# Altium integrated library TI_Logic_Specialty_Logic.IntLib: 2504 symbols (part 70 of 81)
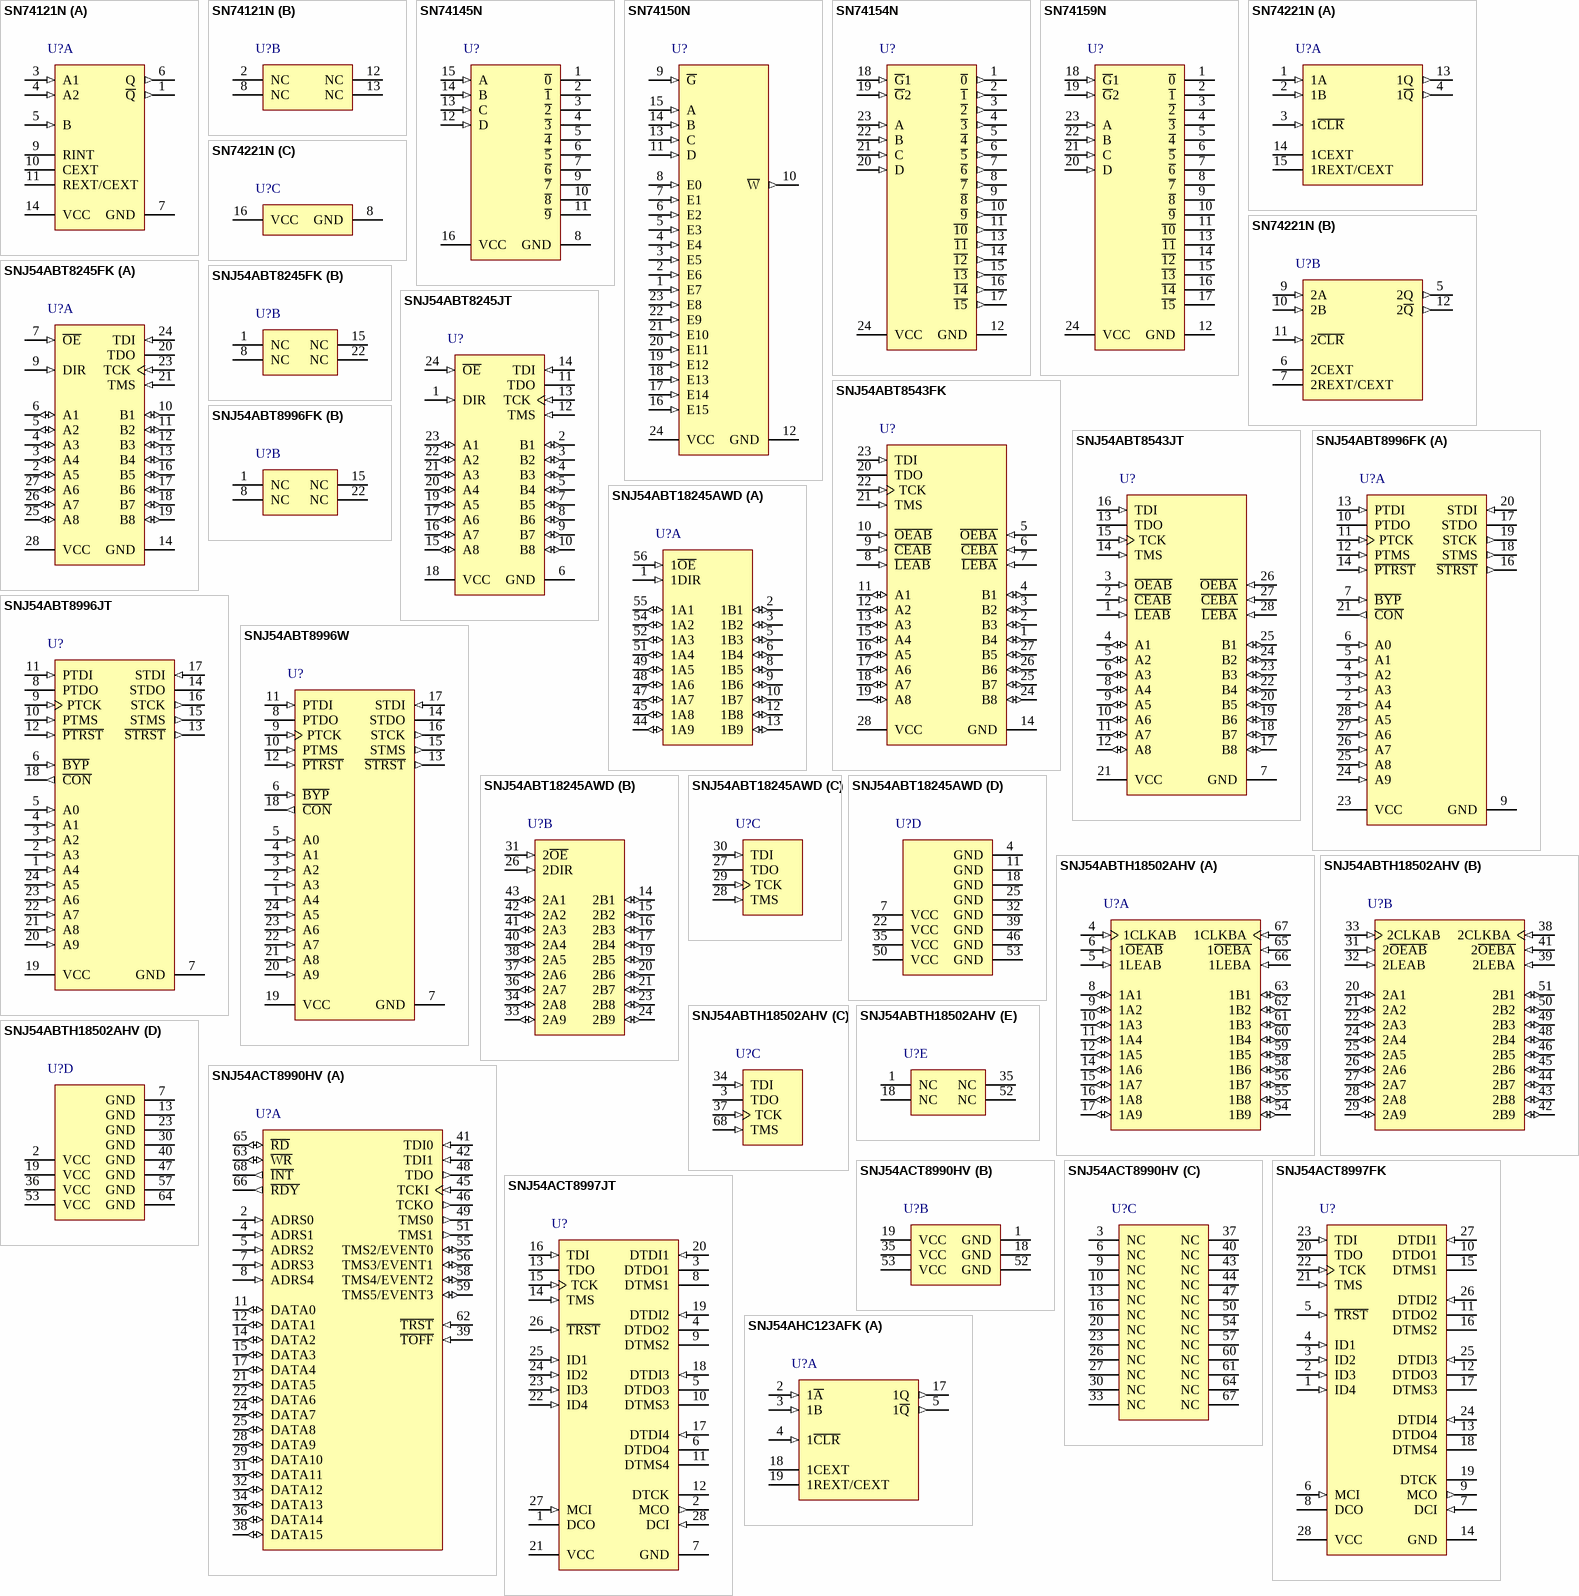
[diagram p173: symbols SN74121N to SNJ54AHC123AFK]

## SNJ54ABT8543FK
designator U?
Scan Test Devices With Octal Registered Bus Tranceivers, FK0028A, TUBE; Generic Part Number: SN54ABT8543; Manufacturer: Texas Instruments; PartNumber: SNJ54ABT8543FK; VCC(Min)(V): 4.5; VCC(Max)(V): 5.5; Output Type: TTL; ICC @ Nom Voltage(Max)(mA): 38; Bits(#): 8; Rating: Military; Technology Family: ABT; Output Drive (IOL/IOH)(Max)(mA): 64/-32; tpd @ Nom Voltage(Max)(ns): 5.8; DatasheetVersion: SCBS120E; PackageReference: FK0028A; Input Type: TTL; Operating Temperature Range(C): -55 to 125; Code_JEDEC: MS-004; ComponentLink1Description: Manufacturer URL; ComponentLink1URL: http://www.ti.com/; ComponentLink2Description: Datasheet; ComponentLink2URL: http://www.ti.com/lit/ds/symlink/sn54abt8543.pdf; ComponentLink3Description: Package Specification; ComponentLink3URL: http://www.ti.com/lit/ml/mlcc006d/mlcc006d.pdf
footprint FD0028A_N (LCC, 28-Leads, Body 11.43x11.43mm, Pitch 1.27mm, IPC Medium Density)
footprint FD0028A_M (LCC, 28-Leads, Body 11.43x11.43mm, Pitch 1.27mm, IPC Low Density)
footprint FD0028A_L (LCC, 28-Leads, Body 11.43x11.43mm, Pitch 1.27mm, IPC High Density)
pins: 1 B4 (io) "Normal-function B-bus I/O ports. See function table for normal-mode logic.", 2 B3 (io) "Normal-function B-bus I/O ports. See function table for normal-mode logic.", 3 B2 (io) "Normal-function B-bus I/O ports. See function table for normal-mode logic.", 4 B1 (io) "Normal-function B-bus I/O ports. See function table for normal-mode logic.", 5 ~{OEBA} (in) "Normal-function output-enable inputs. See function table for normal-mode logic.", 6 ~{CEBA} (in) "Normal-function chip-enable inputs. See function table for normal-mode logic.", 7 ~{LEBA} (in) "Normal-function latch-enable inputs. See function table for normal-mode logic.", 8 ~{LEAB} (in) "Normal-function latch-enable inputs. See function table for normal-mode logic.", 9 ~{CEAB} (in) "Normal-function chip-enable inputs. See function table for normal-mode logic.", 10 ~{OEAB} (in) "Normal-function output-enable inputs. See function table for normal-mode logic.", 11 A1 (io) "Normal-function A-bus I/O ports. See function table for normal-mode logic.", 12 A2 (io) "Normal-function A-bus I/O ports. See function table for normal-mode logic.", 13 A3 (io) "Normal-function A-bus I/O ports. See function table for normal-mode logic.", 14 GND (power) "Ground", 15 A4 (io) "Normal-function A-bus I/O ports. See function table for normal-mode logic.", 16 A5 (io) "Normal-function A-bus I/O ports. See function table for normal-mode logic.", 17 A6 (io) "Normal-function A-bus I/O ports. See function table for normal-mode logic.", 18 A7 (io) "Normal-function A-bus I/O ports. See function table for normal-mode logic.", 19 A8 (io) "Normal-function A-bus I/O ports. See function table for normal-mode logic.", 20 TDO (hiz) "Test data output. One of four terminals required by IEEE Standard 1149.1-1990. TDO is the serial output for shifting data through the instruction register or selected data register.", 21 TMS (in) "Test mode select. One of four terminals required by IEEE Standard 1149.1-1990. TMS directs the device through its TAP controller states. An internal pullup forces TMS to a high level if left unconnected.", 22 TCK (in) "Test clock. One of four terminals required by IEEE Standard 1149.1-1990. Test operations of the device are synchronous to TCK. Data is captured on the rising edge of TCK, and outputs change on the falling edge of TCK.", 23 TDI (in) "Test data input. One of four terminals required by IEEE Standard 1149.1-1990. TDI is the serial input for shifting data through the instruction register or selected data register. An internal pullup forces TDI to a high (See Datasheet)", 24 B8 (io) "Normal-function B-bus I/O ports. See function table for normal-mode logic.", 25 B7 (io) "Normal-function B-bus I/O ports. See function table for normal-mode logic.", 26 B6 (io) "Normal-function B-bus I/O ports. See function table for normal-mode logic.", 27 B5 (io) "Normal-function B-bus I/O ports. See function table for normal-mode logic.", 28 VCC (power) "Supply voltage"

## SNJ54ABT8543JT
designator U?
Scan Test Devices With Octal Registered Bus Tranceivers, JT0028A, TUBE; Generic Part Number: SN54ABT8543; Manufacturer: Texas Instruments; PartNumber: SNJ54ABT8543JT; VCC(Min)(V): 4.5; VCC(Max)(V): 5.5; Output Type: TTL; ICC @ Nom Voltage(Max)(mA): 38; Bits(#): 8; Rating: Military; Technology Family: ABT; Output Drive (IOL/IOH)(Max)(mA): 64/-32; tpd @ Nom Voltage(Max)(ns): 5.8; DatasheetVersion: SCBS120E; PackageReference: JT0028A; Input Type: TTL; Operating Temperature Range(C): -55 to 125; ComponentLink1Description: Manufacturer URL; ComponentLink1URL: http://www.ti.com/; ComponentLink2Description: Datasheet; ComponentLink2URL: http://www.ti.com/lit/ds/symlink/sn54abt8543.pdf
footprint JT0028A (DIP, 28-Leads, Body 37.1x7.2mm, Pitch 2.54mm)
pins: 1 ~{LEAB} (in) "Normal-function latch-enable inputs. See function table for normal-mode logic.", 2 ~{CEAB} (in) "Normal-function chip-enable inputs. See function table for normal-mode logic.", 3 ~{OEAB} (in) "Normal-function output-enable inputs. See function table for normal-mode logic.", 4 A1 (io) "Normal-function A-bus I/O ports. See function table for normal-mode logic.", 5 A2 (io) "Normal-function A-bus I/O ports. See function table for normal-mode logic.", 6 A3 (io) "Normal-function A-bus I/O ports. See function table for normal-mode logic.", 7 GND (power) "Ground", 8 A4 (io) "Normal-function A-bus I/O ports. See function table for normal-mode logic.", 9 A5 (io) "Normal-function A-bus I/O ports. See function table for normal-mode logic.", 10 A6 (io) "Normal-function A-bus I/O ports. See function table for normal-mode logic.", 11 A7 (io) "Normal-function A-bus I/O ports. See function table for normal-mode logic.", 12 A8 (io) "Normal-function A-bus I/O ports. See function table for normal-mode logic.", 13 TDO (hiz) "Test data output. One of four terminals required by IEEE Standard 1149.1-1990. TDO is the serial output for shifting data through the instruction register or selected data register.", 14 TMS (in) "Test mode select. One of four terminals required by IEEE Standard 1149.1-1990. TMS directs the device through its TAP controller states. An internal pullup forces TMS to a high level if left unconnected.", 15 TCK (in) "Test clock. One of four terminals required by IEEE Standard 1149.1-1990. Test operations of the device are synchronous to TCK. Data is captured on the rising edge of TCK, and outputs change on the falling edge of TCK.", 16 TDI (in) "Test data input. One of four terminals required by IEEE Standard 1149.1-1990. TDI is the serial input for shifting data through the instruction register or selected data register. An internal pullup forces TDI to a high (See Datasheet)", 17 B8 (io) "Normal-function B-bus I/O ports. See function table for normal-mode logic.", 18 B7 (io) "Normal-function B-bus I/O ports. See function table for normal-mode logic.", 19 B6 (io) "Normal-function B-bus I/O ports. See function table for normal-mode logic.", 20 B5 (io) "Normal-function B-bus I/O ports. See function table for normal-mode logic.", 21 VCC (power) "Supply voltage", 22 B4 (io) "Normal-function B-bus I/O ports. See function table for normal-mode logic.", 23 B3 (io) "Normal-function B-bus I/O ports. See function table for normal-mode logic.", 24 B2 (io) "Normal-function B-bus I/O ports. See function table for normal-mode logic.", 25 B1 (io) "Normal-function B-bus I/O ports. See function table for normal-mode logic.", 26 ~{OEBA} (in) "Normal-function output-enable inputs. See function table for normal-mode logic.", 27 ~{CEBA} (in) "Normal-function chip-enable inputs. See function table for normal-mode logic.", 28 ~{LEBA} (in) "Normal-function latch-enable inputs. See function table for normal-mode logic."

## SNJ54ABT8996FK
designator U?
10-Bit Addressable Scan Ports Multidrop-Addressable IEEE 1149.1, FK0028A, TUBE; Generic Part Number: SN54ABT8996; Manufacturer: Texas Instruments; PartNumber: SNJ54ABT8996FK; VCC(Min)(V): 4.5; VCC(Max)(V): 5.5; Output Type: TTL; Rating: Military; Technology Family: ABT; DatasheetVersion: SCBS489C; PackageReference: FK0028A; Input Type: TTL; Operating Temperature Range(C): -55 to 125; Code_JEDEC: MS-004; ComponentLink1Description: Manufacturer URL; ComponentLink1URL: http://www.ti.com/; ComponentLink2Description: Datasheet; ComponentLink2URL: http://www.ti.com/lit/ds/symlink/sn54abt8996.pdf; ComponentLink3Description: Package Specification; ComponentLink3URL: http://www.ti.com/lit/ml/mlcc006d/mlcc006d.pdf
footprint FD0028A_N (LCC, 28-Leads, Body 11.43x11.43mm, Pitch 1.27mm, IPC Medium Density)
footprint FD0028A_M (LCC, 28-Leads, Body 11.43x11.43mm, Pitch 1.27mm, IPC Low Density)
footprint FD0028A_L (LCC, 28-Leads, Body 11.43x11.43mm, Pitch 1.27mm, IPC High Density)
part A pins: 2 A4 (in) "Address inputs. The ASP compares addresses received via shadow protocol against the value at A9-A0 to determine address match. The bit order is from most significant to least significant. An internal pullup at each A9-A0 (See Datasheet)", 3 A3 (in) "Address inputs. The ASP compares addresses received via shadow protocol against the value at A9-A0 to determine address match. The bit order is from most significant to least significant. An internal pullup at each A9-A0 (See Datasheet)", 4 A2 (in) "Address inputs. The ASP compares addresses received via shadow protocol against the value at A9-A0 to determine address match. The bit order is from most significant to least significant. An internal pullup at each A9-A0 (See Datasheet)", 5 A1 (in) "Address inputs. The ASP compares addresses received via shadow protocol against the value at A9-A0 to determine address match. The bit order is from most significant to least significant. An internal pullup at each A9-A0 (See Datasheet)", 6 A0 (in) "Address inputs. The ASP compares addresses received via shadow protocol against the value at A9-A0 to determine address match. The bit order is from most significant to least significant. An internal pullup at each A9-A0 (See Datasheet)", 7 ~{BYP} (in) "Bypass input. A low input at B\Y\P\ forces the ASP into BYP or BYP/TRST status, depending on P\T\R\S\T\ being high or low, respectively. While B\Y\P\ is low, shadow protocols are ignored. Otherwise, while B\Y\P\ is high, the (See Datasheet)", 9 GND (power) "Ground", 10 PTDO (hiz) "Primary test data output. PTDO transmits the TDO signal required by IEEE Standard 1149.1-1990. During shadow protocols, the ASP transmits any required acknowledgement via the PTDO. The acknowledgement data output at PTDO (See Datasheet)", 11 PTCK (in) "Primary test clock. PTCK receives the TCK signal required by IEEE Standard 1149.1-1990. The ASP always buffers PTCK to STCK. Shadow protocols are received/acknowledged synchronously to PTCK and connect-status changes invoked (See Datasheet)", 12 PTMS (in) "Primary test mode select. PTMS receives the TMS signal required by IEEE Standard 1149.1-1990. The ASP monitors the PTMS to determine the TAP-controller state. During stable TAP states other than Shift-DR or Shift-IR (i.e.(See Datasheet)", 13 PTDI (in) "Primary test data input. PTDI receives the TDI signal required by IEEE Standard 1149.1-1990. During appropriate TAP states, the ASP monitors PTDI for shadow protocols. During shadow protocols, data at PTDI is captured on the (See Datasheet)", 14 ~{PTRST} (in) "Primary test reset. P\T\R\S\T\ receives the T\R\T\ signal allowed by IEEE Standard 1149.1-1990. The ASP always buffers P\T\R\S\T\ to S\T\R\S\T\. A low input at P\T\R\S\T\ forces the ASP to assume TRST or BYP/TRST status, (See Datasheet)", 16 ~{STRST} (out) "Secondary test reset. S\T\R\S\T\ retransmits the T\R\S\T\ signal allowed by IEEE Standard 1149.1-1990. The ASP always buffers S\T\R\S\T\ from P\T\R\S\T\.", 17 STDO (hiz) "Secondary test data output. STDO transmits the TDO signal required by IEEE Standard 1149.1-1990. Under BYP,BYP/TRST, MULTICAST, or ON status, the ASP buffers STDO from PTDI. Under OFF, RESET, or TRST status, STDO is at high (See Datasheet)", 18 STMS (out) "Secondary test mode select. STMS retransmits the TMS signal required by IEEE Standard 1149.1-1990. Under BYP, MULTICAST, or ON status, the ASP buffers STMS from PTMS. When disconnected (as a result of OFF status), STMS (See Datasheet)", 19 STCK (out) "Secondary test clock. STCK retransmits the TCK signal required by IEEE Standard 1149.1-1990. The ASP always buffers STCK from PTCK.", 20 STDI (in) "Secondary test data input. STDI receives the TDI signal required by IEEE Standard 1149.1-1990. Under BYP,BYP/TRST, or ON status, the ASP buffers STDI to PTDO. An internal pullup forces STDI to a high level if it has no (See Datasheet)", 21 ~{CON} (out) "Connect indicator (output). The ASP indicates secondary-scan-port activity (resulting from BYP, BYP/TRST,MULTICAST, or ON status) by forcing C\O\N\ to be low. Inactivity (resulting from OFF, RESET, or TRST status) is (See Datasheet)", 23 VCC (power) "Supply voltage", 24 A9 (in) "Address inputs. The ASP compares addresses received via shadow protocol against the value at A9-A0 to determine address match. The bit order is from most significant to least significant. An internal pullup at each A9-A0 (See Datasheet)", 25 A8 (in) "Address inputs. The ASP compares addresses received via shadow protocol against the value at A9-A0 to determine address match. The bit order is from most significant to least significant. An internal pullup at each A9-A0 (See Datasheet)", 26 A7 (in) "Address inputs. The ASP compares addresses received via shadow protocol against the value at A9-A0 to determine address match. The bit order is from most significant to least significant. An internal pullup at each A9-A0 (See Datasheet)", 27 A6 (in) "Address inputs. The ASP compares addresses received via shadow protocol against the value at A9-A0 to determine address match. The bit order is from most significant to least significant. An internal pullup at each A9-A0 (See Datasheet)", 28 A5 (in) "Address inputs. The ASP compares addresses received via shadow protocol against the value at A9-A0 to determine address match. The bit order is from most significant to least significant. An internal pullup at each A9-A0 (See Datasheet)"
part B pins: 1 NC, 8 NC, 15 NC, 22 NC

## SNJ54ABT8996JT
designator U?
10-Bit Addressable Scan Ports Multidrop-Addressable IEEE 1149.1, JT0024A, TUBE; Generic Part Number: SN54ABT8996; Manufacturer: Texas Instruments; PartNumber: SNJ54ABT8996JT; VCC(Min)(V): 4.5; VCC(Max)(V): 5.5; Output Type: TTL; Rating: Military; Technology Family: ABT; DatasheetVersion: SCBS489C; PackageReference: JT0024A; Input Type: TTL; Operating Temperature Range(C): -55 to 125; ComponentLink1Description: Manufacturer URL; ComponentLink1URL: http://www.ti.com/; ComponentLink2Description: Datasheet; ComponentLink2URL: http://www.ti.com/lit/ds/symlink/sn54abt8996.pdf
footprint JT0024A (DIP, 24-Leads, Body 7.2x32.5mm, Pitch 2.54mm)
pins: 1 A4 (in) "Address inputs. The ASP compares addresses received via shadow protocol against the value at A9-A0 to determine address match. The bit order is from most significant to least significant. An internal pullup at each A9-A0 (See Datasheet)", 2 A3 (in) "Address inputs. The ASP compares addresses received via shadow protocol against the value at A9-A0 to determine address match. The bit order is from most significant to least significant. An internal pullup at each A9-A0 (See Datasheet)", 3 A2 (in) "Address inputs. The ASP compares addresses received via shadow protocol against the value at A9-A0 to determine address match. The bit order is from most significant to least significant. An internal pullup at each A9-A0 (See Datasheet)", 4 A1 (in) "Address inputs. The ASP compares addresses received via shadow protocol against the value at A9-A0 to determine address match. The bit order is from most significant to least significant. An internal pullup at each A9-A0 (See Datasheet)", 5 A0 (in) "Address inputs. The ASP compares addresses received via shadow protocol against the value at A9-A0 to determine address match. The bit order is from most significant to least significant. An internal pullup at each A9-A0 (See Datasheet)", 6 ~{BYP} (in) "Bypass input. A low input at B\Y\P\ forces the ASP into BYP or BYP/TRST status, depending on P\T\R\S\T\ being high or low, respectively. While B\Y\P\ is low, shadow protocols are ignored. Otherwise, while B\Y\P\ is high, the (See Datasheet)", 7 GND (power) "Ground", 8 PTDO (hiz) "Primary test data output. PTDO transmits the TDO signal required by IEEE Standard 1149.1-1990. During shadow protocols, the ASP transmits any required acknowledgement via the PTDO. The acknowledgement data output at PTDO (See Datasheet)", 9 PTCK (in) "Primary test clock. PTCK receives the TCK signal required by IEEE Standard 1149.1-1990. The ASP always buffers PTCK to STCK. Shadow protocols are received/acknowledged synchronously to PTCK and connect-status changes invoked (See Datasheet)", 10 PTMS (in) "Primary test mode select. PTMS receives the TMS signal required by IEEE Standard 1149.1-1990. The ASP monitors the PTMS to determine the TAP-controller state. During stable TAP states other than Shift-DR or Shift-IR (i.e.(See Datasheet)", 11 PTDI (in) "Primary test data input. PTDI receives the TDI signal required by IEEE Standard 1149.1-1990. During appropriate TAP states, the ASP monitors PTDI for shadow protocols. During shadow protocols, data at PTDI is captured on the (See Datasheet)", 12 ~{PTRST} (in) "Primary test reset. P\T\R\S\T\ receives the T\R\S\T\ signal allowed by IEEE Standard 1149.1-1990. The ASP always buffers P\T\R\S\T\ to S\T\R\S\T\. A low input at PTRST forces the ASP to assume TRST or BYP/TRST status, (See Datasheet)", 13 ~{STRST} (out) "Secondary test reset. S\T\R\S\T\ retransmits the T\R\S\T\ signal allowed by IEEE Standard 1149.1-1990. The ASP always buffers S\T\R\S\T\ from P\T\R\S\T\.", 14 STDO (hiz) "Secondary test data output. STDO transmits the TDO signal required by IEEE Standard 1149.1-1990. Under BYP,BYP/TRST, MULTICAST, or ON status, the ASP buffers STDO from PTDI. Under OFF, RESET, or TRST status, STDO is at high (See Datasheet)", 15 STMS (out) "Secondary test mode select. STMS retransmits the TMS signal required by IEEE Standard 1149.1-1990. Under BYP,MULTICAST, or ON status, the ASP buffers STMS from PTMS. When disconnected (as a result of OFF status), STMS (See Datasheet)", 16 STCK (out) "Secondary test clock. STCK retransmits the TCK signal required by IEEE Standard 1149.1-1990. The ASP always buffers STCK from PTCK.", 17 STDI (in) "Secondary test data input. STDI receives the TDI signal required by IEEE Standard 1149.1-1990. Under BYP,BYP/TRST, or ON status, the ASP buffers STDI to PTDO. An internal pullup forces STDI to a high level if it has no (See Datasheet)", 18 ~{CON} (out) "Connect indicator (output). The ASP indicates secondary-scan-port activity (resulting from BYP, BYP/TRST,MULTICAST, or ON status) by forcing CON to be low. Inactivity (resulting from OFF, RESET, or TRST status) is indicated (See Datasheet)", 19 VCC (power) "Supply voltage", 20 A9 (in) "Address inputs. The ASP compares addresses received via shadow protocol against the value at A9-A0 to determine address match. The bit order is from most significant to least significant. An internal pullup at each A9-A0 (See Datasheet)", 21 A8 (in) "Address inputs. The ASP compares addresses received via shadow protocol against the value at A9-A0 to determine address match. The bit order is from most significant to least significant. An internal pullup at each A9-A0 (See Datasheet)", 22 A7 (in) "Address inputs. The ASP compares addresses received via shadow protocol against the value at A9-A0 to determine address match. The bit order is from most significant to least significant. An internal pullup at each A9-A0 (See Datasheet)", 23 A6 (in) "Address inputs. The ASP compares addresses received via shadow protocol against the value at A9-A0 to determine address match. The bit order is from most significant to least significant. An internal pullup at each A9-A0 (See Datasheet)", 24 A5 (in) "Address inputs. The ASP compares addresses received via shadow protocol against the value at A9-A0 to determine address match. The bit order is from most significant to least significant. An internal pullup at each A9-A0 (See Datasheet)"

## SNJ54ABT8996W
designator U?
10-Bit Addressable Scan Ports Multidrop-Addressable IEEE 1149.1, W0024A, TUBE; Generic Part Number: SN54ABT8996; Manufacturer: Texas Instruments; PartNumber: SNJ54ABT8996W; VCC(Min)(V): 4.5; VCC(Max)(V): 5.5; Output Type: TTL; Rating: Military; Technology Family: ABT; DatasheetVersion: SCBS489C; PackageReference: W0024A; Input Type: TTL; Operating Temperature Range(C): -55 to 125; ComponentLink1Description: Manufacturer URL; ComponentLink1URL: http://www.ti.com/; ComponentLink2Description: Datasheet; ComponentLink2URL: http://www.ti.com/lit/ds/symlink/sn54abt8996.pdf
footprint W0024A_N (CFP, 24-Leads, Body 16.26x9.53mm, Pitch 1.27mm, IPC Medium Density)
footprint W0024A_M (CFP, 24-Leads, Body 16.26x9.53mm, Pitch 1.27mm, IPC Low Density)
footprint W0024A_L (CFP, 24-Leads, Body 16.26x9.53mm, Pitch 1.27mm, IPC High Density)
pins: 1 A4 (in) "Address inputs. The ASP compares addresses received via shadow protocol against the value at A9-A0 to determine address match. The bit order is from most significant to least significant. An internal pullup at each A9-A0 (See Datasheet)", 2 A3 (in) "Address inputs. The ASP compares addresses received via shadow protocol against the value at A9-A0 to determine address match. The bit order is from most significant to least significant. An internal pullup at each A9-A0 (See Datasheet)", 3 A2 (in) "Address inputs. The ASP compares addresses received via shadow protocol against the value at A9-A0 to determine address match. The bit order is from most significant to least significant. An internal pullup at each A9-A0 (See Datasheet)", 4 A1 (in) "Address inputs. The ASP compares addresses received via shadow protocol against the value at A9-A0 to determine address match. The bit order is from most significant to least significant. An internal pullup at each A9-A0 (See Datasheet)", 5 A0 (in) "Address inputs. The ASP compares addresses received via shadow protocol against the value at A9-A0 to determine address match. The bit order is from most significant to least significant. An internal pullup at each A9-A0 (See Datasheet)", 6 ~{BYP} (in) "Bypass input. A low input at B\Y\P\ forces the ASP into BYP or BYP/TRST status, depending on P\T\R\S\T\ being high or low, respectively. While B\Y\P\ is low, shadow protocols are ignored. Otherwise, while B\Y\P\ is high, the (See Datasheet)", 7 GND (power) "Ground", 8 PTDO (hiz) "Primary test data output. PTDO transmits the TDO signal required by IEEE Standard 1149.1-1990. During shadow protocols, the ASP transmits any required acknowledgement via the PTDO. The acknowledgement data output at PTDO (See Datasheet)", 9 PTCK (in) "Primary test clock. PTCK receives the TCK signal required by IEEE Standard 1149.1-1990. The ASP always buffers PTCK to STCK. Shadow protocols are received/acknowledged synchronously to PTCK and connect-status changes invoked (See Datasheet)", 10 PTMS (in) "Primary test mode select. PTMS receives the TMS signal required by IEEE Standard 1149.1-1990. The ASP monitors the PTMS to determine the TAP-controller state. During stable TAP states other than Shift-DR or Shift-IR (i.e.(See Datasheet)", 11 PTDI (in) "Primary test data input. PTDI receives the TDI signal required by IEEE Standard 1149.1-1990. During appropriate TAP states, the ASP monitors PTDI for shadow protocols. During shadow protocols, data at PTDI is captured on the (See Datasheet)", 12 ~{PTRST} (in) "Primary test reset. P\T\R\S\T\ receives the T\R\S\T\ signal allowed by IEEE Standard 1149.1-1990. The ASP always buffers P\T\R\S\T\ to S\T\R\S\T\. A low input at PTRST forces the ASP to assume TRST or BYP/TRST status, (See Datasheet)", 13 ~{STRST} (out) "Secondary test reset. S\T\R\S\T\ retransmits the T\R\S\T\ signal allowed by IEEE Standard 1149.1-1990. The ASP always buffers S\T\R\S\T\ from P\T\R\S\T\.", 14 STDO (hiz) "Secondary test data output. STDO transmits the TDO signal required by IEEE Standard 1149.1-1990. Under BYP,BYP/TRST, MULTICAST, or ON status, the ASP buffers STDO from PTDI. Under OFF, RESET, or TRST status, STDO is at high (See Datasheet)", 15 STMS (out) "Secondary test mode select. STMS retransmits the TMS signal required by IEEE Standard 1149.1-1990. Under BYP,MULTICAST, or ON status, the ASP buffers STMS from PTMS. When disconnected (as a result of OFF status), STMS (See Datasheet)", 16 STCK (out) "Secondary test clock. STCK retransmits the TCK signal required by IEEE Standard 1149.1-1990. The ASP always buffers STCK from PTCK.", 17 STDI (in) "Secondary test data input. STDI receives the TDI signal required by IEEE Standard 1149.1-1990. Under BYP,BYP/TRST, or ON status, the ASP buffers STDI to PTDO. An internal pullup forces STDI to a high level if it has no (See Datasheet)", 18 ~{CON} (out) "Connect indicator (output). The ASP indicates secondary-scan-port activity (resulting from BYP, BYP/TRST,MULTICAST, or ON status) by forcing CON to be low. Inactivity (resulting from OFF, RESET, or TRST status) is indicated (See Datasheet)", 19 VCC (power) "Supply voltage", 20 A9 (in) "Address inputs. The ASP compares addresses received via shadow protocol against the value at A9-A0 to determine address match. The bit order is from most significant to least significant. An internal pullup at each A9-A0 (See Datasheet)", 21 A8 (in) "Address inputs. The ASP compares addresses received via shadow protocol against the value at A9-A0 to determine address match. The bit order is from most significant to least significant. An internal pullup at each A9-A0 (See Datasheet)", 22 A7 (in) "Address inputs. The ASP compares addresses received via shadow protocol against the value at A9-A0 to determine address match. The bit order is from most significant to least significant. An internal pullup at each A9-A0 (See Datasheet)", 23 A6 (in) "Address inputs. The ASP compares addresses received via shadow protocol against the value at A9-A0 to determine address match. The bit order is from most significant to least significant. An internal pullup at each A9-A0 (See Datasheet)", 24 A5 (in) "Address inputs. The ASP compares addresses received via shadow protocol against the value at A9-A0 to determine address match. The bit order is from most significant to least significant. An internal pullup at each A9-A0 (See Datasheet)"

## SNJ54ABT18245AWD
designator U?
Scan Test Devices With 18-Bit Bus Transceivers, WD0056A, TUBE; Generic Part Number: SN54ABT18245A; Manufacturer: Texas Instruments; PartNumber: SNJ54ABT18245AWD; VCC(Min)(V): 4.5; VCC(Max)(V): 5.5; Output Type: TTL; ICC @ Nom Voltage(Max)(mA): 38; Bits(#): 18; Rating: Military; Technology Family: ABT; Output Drive (IOL/IOH)(Max)(mA): 64/-32; Output Logic: True; tpd @ Nom Voltage(Max)(ns): 5.4; DatasheetVersion: SCBS110H; PackageReference: WD0056A; Input Type: TTL; Operating Temperature Range(C): -55 to 125; ComponentLink1Description: Manufacturer URL; ComponentLink1URL: http://www.ti.com/; ComponentLink2Description: Datasheet; ComponentLink2URL: http://www.ti.com/lit/ds/symlink/sn54abt18245a.pdf
footprint WD0056A_N (CFP, 56-Leads, Body 18.03x9.91mm, Pitch 0.635mm, IPC Medium Density)
footprint WD0056A_M (CFP, 56-Leads, Body 18.03x9.91mm, Pitch 0.635mm, IPC Low Density)
footprint WD0056A_L (CFP, 56-Leads, Body 18.03x9.91mm, Pitch 0.635mm, IPC High Density)
part A pins: 1 1DIR (in) "Normal-function direction controls. See function table for normal-mode logic.", 2 1B1 (io) "Normal-function B-bus I/O ports. See function table for normal-mode logic.", 3 1B2 (io) "Normal-function B-bus I/O ports. See function table for normal-mode logic.", 5 1B3 (io) "Normal-function B-bus I/O ports. See function table for normal-mode logic.", 6 1B4 (io) "Normal-function B-bus I/O ports. See function table for normal-mode logic.", 8 1B5 (io) "Normal-function B-bus I/O ports. See function table for normal-mode logic.", 9 1B6 (io) "Normal-function B-bus I/O ports. See function table for normal-mode logic.", 10 1B7 (io) "Normal-function B-bus I/O ports. See function table for normal-mode logic.", 12 1B8 (io) "Normal-function B-bus I/O ports. See function table for normal-mode logic.", 13 1B9 (io) "Normal-function B-bus I/O ports. See function table for normal-mode logic.", 44 1A9 (io) "Normal-function A-bus I/O ports. See function table for normal-mode logic.", 45 1A8 (io) "Normal-function A-bus I/O ports. See function table for normal-mode logic.", 47 1A7 (io) "Normal-function A-bus I/O ports. See function table for normal-mode logic.", 48 1A6 (io) "Normal-function A-bus I/O ports. See function table for normal-mode logic.", 49 1A5 (io) "Normal-function A-bus I/O ports. See function table for normal-mode logic.", 51 1A4 (io) "Normal-function A-bus I/O ports. See function table for normal-mode logic.", 52 1A3 (io) "Normal-function A-bus I/O ports. See function table for normal-mode logic.", 54 1A2 (io) "Normal-function A-bus I/O ports. See function table for normal-mode logic.", 55 1A1 (io) "Normal-function A-bus I/O ports. See function table for normal-mode logic.", 56 1~{OE} (in) "Normal-function output enables. See function table for normal-mode logic."
part B pins: 14 2B1 (io) "Normal-function B-bus I/O ports. See function table for normal-mode logic.", 15 2B2 (io) "Normal-function B-bus I/O ports. See function table for normal-mode logic.", 16 2B3 (io) "Normal-function B-bus I/O ports. See function table for normal-mode logic.", 17 2B4 (io) "Normal-function B-bus I/O ports. See function table for normal-mode logic.", 19 2B5 (io) "Normal-function B-bus I/O ports. See function table for normal-mode logic.", 20 2B6 (io) "Normal-function B-bus I/O ports. See function table for normal-mode logic.", 21 2B7 (io) "Normal-function B-bus I/O ports. See function table for normal-mode logic.", 23 2B8 (io) "Normal-function B-bus I/O ports. See function table for normal-mode logic.", 24 2B9 (io) "Normal-function B-bus I/O ports. See function table for normal-mode logic.", 26 2DIR (in) "Normal-function direction controls. See function table for normal-mode logic.", 31 2~{OE} (in) "Normal-function output enables. See function table for normal-mode logic.", 33 2A9 (io) "Normal-function A-bus I/O ports. See function table for normal-mode logic.", 34 2A8 (io) "Normal-function A-bus I/O ports. See function table for normal-mode logic.", 36 2A7 (io) "Normal-function A-bus I/O ports. See function table for normal-mode logic.", 37 2A6 (io) "Normal-function A-bus I/O ports. See function table for normal-mode logic.", 38 2A5 (io) "Normal-function A-bus I/O ports. See function table for normal-mode logic.", 40 2A4 (io) "Normal-function A-bus I/O ports. See function table for normal-mode logic.", 41 2A3 (io) "Normal-function A-bus I/O ports. See function table for normal-mode logic.", 42 2A2 (io) "Normal-function A-bus I/O ports. See function table for normal-mode logic.", 43 2A1 (io) "Normal-function A-bus I/O ports. See function table for normal-mode logic."
part C pins: 27 TDO (hiz) "Test data output. One of four terminals required by IEEE Standard 1149.1-1990. TDO is the serial output for shifting data through the instruction register or selected data register.", 28 TMS (in) "Test mode select. One of four terminals required by IEEE Standard 1149.1-1990. TMS directs the device through its TAP controller states. An internal pullup forces TMS to a high level if left unconnected.", 29 TCK (in) "Test clock. One of four terminals required by IEEE Standard 1149.1-1990. Test operations of the device are synchronous to TCK. Data is captured on the rising edge of TCK and outputs change on the falling edge of TCK.", 30 TDI (in) "Test data input. One of four terminals required by IEEE Standard 1149.1-1990. TDI is the serial input for shifting data through the instruction register or selected data register. An internal pullup forces TDI to a high (See Datasheet)"
part D pins: 4 GND (power) "Ground", 7 VCC (power) "Supply voltage", 11 GND (power) "Ground", 18 GND (power) "Ground", 22 VCC (power) "Supply voltage", 25 GND (power) "Ground", 32 GND (power) "Ground", 35 VCC (power) "Supply voltage", 39 GND (power) "Ground", 46 GND (power) "Ground", 50 VCC (power) "Supply voltage", 53 GND (power) "Ground"

## SNJ54ABTH18502AHV
designator U?
Scan Test Devices With 18-Bit Universal Bus Transceivers, HV0068A, TUBE; Generic Part Number: SN54ABTH18502A; Manufacturer: Texas Instruments; PartNumber: SNJ54ABTH18502AHV; VCC(Min)(V): 4.5; VCC(Max)(V): 5.5; Output Type: TTL; ICC @ Nom Voltage(Max)(mA): 27; Bits(#): 18; Rating: Military; Technology Family: ABT; Output Drive (IOL/IOH)(Max)(mA): 64/-32; Output Logic: True; tpd @ Nom Voltage(Max)(ns): 6.2; DatasheetVersion: SCBS164E; PackageReference: HV0068A; Input Type: TTL; Operating Temperature Range(C): -55 to 125; ComponentLink1Description: Manufacturer URL; ComponentLink1URL: http://www.ti.com/; ComponentLink2Description: Datasheet; ComponentLink2URL: http://www.ti.com/lit/ds/symlink/sn54abth18502a.pdf
footprint HV0068A_N (CQFP, 68-Leads, Body 17.46x17.46mm, Pitch 0.64mm, IPC Medium Density)
footprint HV0068A_M (CQFP, 68-Leads, Body 17.46x17.46mm, Pitch 0.64mm, IPC Low Density)
footprint HV0068A_L (CQFP, 68-Leads, Body 17.46x17.46mm, Pitch 0.64mm, IPC High Density)
part A pins: 4 1CLKAB (in) "Normal-function clock inputs. See function table for normal-mode logic.", 5 1LEAB (in) "Normal-function latch enables. See function table for normal-mode logic.", 6 1~{OEAB} (in) "Normal-function output enables. See function table for normal-mode logic. An internal pullup at each terminal forces the terminal to a high level if left unconnected.", 8 1A1 (io) "Normal-function A-bus I/O ports. See function table for normal-mode logic.", 9 1A2 (io) "Normal-function A-bus I/O ports. See function table for normal-mode logic.", 10 1A3 (io) "Normal-function A-bus I/O ports. See function table for normal-mode logic.", 11 1A4 (io) "Normal-function A-bus I/O ports. See function table for normal-mode logic.", 12 1A5 (io) "Normal-function A-bus I/O ports. See function table for normal-mode logic.", 14 1A6 (io) "Normal-function A-bus I/O ports. See function table for normal-mode logic.", 15 1A7 (io) "Normal-function A-bus I/O ports. See function table for normal-mode logic.", 16 1A8 (io) "Normal-function A-bus I/O ports. See function table for normal-mode logic.", 17 1A9 (io) "Normal-function A-bus I/O ports. See function table for normal-mode logic.", 54 1B9 (io) "Normal-function B-bus I/O ports. See function table for normal-mode logic.", 55 1B8 (io) "Normal-function B-bus I/O ports. See function table for normal-mode logic.", 56 1B7 (io) "Normal-function B-bus I/O ports. See function table for normal-mode logic.", 58 1B6 (io) "Normal-function B-bus I/O ports. See function table for normal-mode logic.", 59 1B5 (io) "Normal-function B-bus I/O ports. See function table for normal-mode logic.", 60 1B4 (io) "Normal-function B-bus I/O ports. See function table for normal-mode logic.", 61 1B3 (io) "Normal-function B-bus I/O ports. See function table for normal-mode logic.", 62 1B2 (io) "Normal-function B-bus I/O ports. See function table for normal-mode logic.", 63 1B1 (io) "Normal-function B-bus I/O ports. See function table for normal-mode logic.", 65 1~{OEBA} (in) "Normal-function output enables. See function table for normal-mode logic. An internal pullup at each terminal forces the terminal to a high level if left unconnected.", 66 1LEBA (in) "Normal-function latch enables. See function table for normal-mode logic.", 67 1CLKBA (in) "Normal-function clock inputs. See function table for normal-mode logic."
part B pins: 20 2A1 (io) "Normal-function A-bus I/O ports. See function table for normal-mode logic.", 21 2A2 (io) "Normal-function A-bus I/O ports. See function table for normal-mode logic.", 22 2A3 (io) "Normal-function A-bus I/O ports. See function table for normal-mode logic.", 24 2A4 (io) "Normal-function A-bus I/O ports. See function table for normal-mode logic.", 25 2A5 (io) "Normal-function A-bus I/O ports. See function table for normal-mode logic.", 26 2A6 (io) "Normal-function A-bus I/O ports. See function table for normal-mode logic.", 27 2A7 (io) "Normal-function A-bus I/O ports. See function table for normal-mode logic.", 28 2A8 (io) "Normal-function A-bus I/O ports. See function table for normal-mode logic.", 29 2A9 (io) "Normal-function A-bus I/O ports. See function table for normal-mode logic.", 31 2~{OEAB} (in) "Normal-function output enables. See function table for normal-mode logic. An internal pullup at each terminal forces the terminal to a high level if left unconnected.", 32 2LEAB (in) "Normal-function latch enables. See function table for normal-mode logic.", 33 2CLKAB (in) "Normal-function clock inputs. See function table for normal-mode logic.", 38 2CLKBA (in) "Normal-function clock inputs. See function table for normal-mode logic.", 39 2LEBA (in) "Normal-function latch enables. See function table for normal-mode logic.", 41 2~{OEBA} (in) "Normal-function output enables. See function table for normal-mode logic. An internal pullup at each terminal forces the terminal to a high level if left unconnected.", 42 2B9 (io) "Normal-function B-bus I/O ports. See function table for normal-mode logic.", 43 2B8 (io) "Normal-function B-bus I/O ports. See function table for normal-mode logic.", 44 2B7 (io) "Normal-function B-bus I/O ports. See function table for normal-mode logic.", 45 2B6 (io) "Normal-function B-bus I/O ports. See function table for normal-mode logic.", 46 2B5 (io) "Normal-function B-bus I/O ports. See function table for normal-mode logic.", 48 2B4 (io) "Normal-function B-bus I/O ports. See function table for normal-mode logic.", 49 2B3 (io) "Normal-function B-bus I/O ports. See function table for normal-mode logic.", 50 2B2 (io) "Normal-function B-bus I/O ports. See function table for normal-mode logic.", 51 2B1 (io) "Normal-function B-bus I/O ports. See function table for normal-mode logic."
part C pins: 3 TDO (hiz) "Test data output. One of four terminals required by IEEE Standard 1149.1-1990. TDO is the serial output for shifting data through the instruction register or selected data register", 34 TDI (in) "Test data input. One of four terminals required by IEEE Standard 1149.1-1990. TDI is the serial input for shifting data through the instruction register or selected data register. An internal pullup forces TDI to a high (See Datasheet)", 37 TCK (in) "Test clock. One of four terminals required by IEEE Standard 1149.1-1990. Test operations of the device are synchronous to TCK. Data is captured on the rising edge of TCK and outputs change on the falling edge of TCK.", 68 TMS (in) "Test mode select. One of four terminals required by IEEE Standard 1149.1-1990. TMS directs the device through its TAP controller states. An internal pullup forces TMS to a high level if left unconnected."
part D pins: 2 VCC (power) "Supply voltage", 7 GND (power) "Ground", 13 GND (power) "Ground", 19 VCC (power) "Supply voltage", 23 GND (power) "Ground", 30 GND (power) "Ground", 36 VCC (power) "Supply voltage", 40 GND (power) "Ground", 47 GND (power) "Ground", 53 VCC (power) "Supply voltage", 57 GND (power) "Ground", 64 GND (power) "Ground"
part E pins: 1 NC "No internal connection", 18 NC "Ground", 35 NC "No internal connection", 52 NC "No internal connection"

## SNJ54ACT8990HV
designator U?
Test Bus Controllers, HV0068A, TUBE; Generic Part Number: SN54ACT8990; Manufacturer: Texas Instruments; PartNumber: SNJ54ACT8990HV; VCC(Min)(V): 4.5; VCC(Max)(V): 5.5; Output Type: CMOS; Input Type: TTL; Rating: Military; Technology Family: ACT; DatasheetVersion: SCAS190E; PackageReference: HV0068A; Operating Temperature Range(C): -55 to 125; ComponentLink1Description: Manufacturer URL; ComponentLink1URL: http://www.ti.com/; ComponentLink2Description: Datasheet; ComponentLink2URL: http://www.ti.com/lit/ds/symlink/sn54act8990.pdf
footprint HV0068A_N (CQFP, 68-Leads, Body 17.46x17.46mm, Pitch 0.64mm, IPC Medium Density)
footprint HV0068A_M (CQFP, 68-Leads, Body 17.46x17.46mm, Pitch 0.64mm, IPC Low Density)
footprint HV0068A_L (CQFP, 68-Leads, Body 17.46x17.46mm, Pitch 0.64mm, IPC High Density)
part A pins: 2 ADRS0 (in) "Address inputs. ADRS4- ADRS0 form the 5-bit address bus that interfaces the TBC to its host. These inputs specify the TBC register to be read from or written to.", 4 ADRS1 (in) "Address inputs. ADRS4- ADRS0 form the 5-bit address bus that interfaces the TBC to its host. These inputs specify the TBC register to be read from or written to.", 5 ADRS2 (in) "Address inputs. ADRS4- ADRS0 form the 5-bit address bus that interfaces the TBC to its host. These inputs specify the TBC register to be read from or written to.", 7 ADRS3 (in) "Address inputs. ADRS4- ADRS0 form the 5-bit address bus that interfaces the TBC to its host. These inputs specify the TBC register to be read from or written to.", 8 ADRS4 (in) "Address inputs. ADRS4- ADRS0 form the 5-bit address bus that interfaces the TBC to its host. These inputs specify the TBC register to be read from or written to.", 11 DATA0 (io) "Data inputs and outputs. DATA15-DATA0 form the 16-bit bidirectional data bus that interfaces the TBC to its host. Data is read from or written to the TBC register using this data bus.", 12 DATA1 (io) "Data inputs and outputs. DATA15-DATA0 form the 16-bit bidirectional data bus that interfaces the TBC to its host. Data is read from or written to the TBC register using this data bus.", 14 DATA2 (io) "Data inputs and outputs. DATA15-DATA0 form the 16-bit bidirectional data bus that interfaces the TBC to its host. Data is read from or written to the TBC register using this data bus.", 15 DATA3 (io) "Data inputs and outputs. DATA15-DATA0 form the 16-bit bidirectional data bus that interfaces the TBC to its host. Data is read from or written to the TBC register using this data bus.", 17 DATA4 (io) "Data inputs and outputs. DATA15-DATA0 form the 16-bit bidirectional data bus that interfaces the TBC to its host. Data is read from or written to the TBC register using this data bus.", 21 DATA5 (io) "Data inputs and outputs. DATA15-DATA0 form the 16-bit bidirectional data bus that interfaces the TBC to its host. Data is read from or written to the TBC register using this data bus.", 22 DATA6 (io) "Data inputs and outputs. DATA15-DATA0 form the 16-bit bidirectional data bus that interfaces the TBC to its host. Data is read from or written to the TBC register using this data bus.", 24 DATA7 (io) "Data inputs and outputs. DATA15-DATA0 form the 16-bit bidirectional data bus that interfaces the TBC to its host. Data is read from or written to the TBC register using this data bus.", 25 DATA8 (io) "Data inputs and outputs. DATA15-DATA0 form the 16-bit bidirectional data bus that interfaces the TBC to its host. Data is read from or written to the TBC register using this data bus.", 28 DATA9 (io) "Data inputs and outputs. DATA15-DATA0 form the 16-bit bidirectional data bus that interfaces the TBC to its host. Data is read from or written to the TBC register using this data bus.", 29 DATA10 (io) "Data inputs and outputs. DATA15-DATA0 form the 16-bit bidirectional data bus that interfaces the TBC to its host. Data is read from or written to the TBC register using this data bus.", 31 DATA11 (io) "Data inputs and outputs. DATA15-DATA0 form the 16-bit bidirectional data bus that interfaces the TBC to its host. Data is read from or written to the TBC register using this data bus.", 32 DATA12 (io) "Data inputs and outputs. DATA15-DATA0 form the 16-bit bidirectional data bus that interfaces the TBC to its host. Data is read from or written to the TBC register using this data bus.", 34 DATA13 (io) "Data inputs and outputs. DATA15-DATA0 form the 16-bit bidirectional data bus that interfaces the TBC to its host. Data is read from or written to the TBC register using this data bus.", 36 DATA14 (io) "Data inputs and outputs. DATA15-DATA0 form the 16-bit bidirectional data bus that interfaces the TBC to its host. Data is read from or written to the TBC register using this data bus.", 38 DATA15 (io) "Data inputs and outputs. DATA15-DATA0 form the 16-bit bidirectional data bus that interfaces the TBC to its host. Data is read from or written to the TBC register using this data bus.", 39 ~{TOFF} (in) "Test-off input. T\O\F\F\ is the active low output disable for all outputs and I/Os of the target interface (TCKO, TDO, TMS, TMS/EVENT).", 41 TDI0 (in) "Test data inputs. The TDI1-TDI0 serial inputs are used for shifting test data from the target(s). The TDI inputs can be directly connected to the TDO pin(s) of the target(s).", 42 TDI1 (in) "Test data inputs. The TDI1-TDI0 serial inputs are used for shifting test data from the target(s). The TDI inputs can be directly connected to the TDO pin(s) of the target(s).", 45 TCKI (in) "Test clock input. TCKI is the clock input for the TBC. Most operations of the TBC are synchronous to TCKI. When enabled, all target interface outputs change on the falling edge of TCKI. Sampling of target interface inputs (See Datasheet)", 46 TCKO (out) "Test clock output. TCKO distributes TCK to the target(s). The TCKO is configured to be disabled, constant zero, constant one, or to follow TCKI. When TCKO follows TCKI, it is delayed to match the delay of generating the TDO (See Datasheet)", 48 TDO (out) "Test data output. TDO is used for shifting test data into the target(s). TDO can be directly connected to the TDI terminal(s) of the target(s).", 49 TMS0 (out) "Test mode select outputs. These parallel outputs transmit TMS signals to the target(s), which direct them through their TAP controller states. TMS1-TMS0 can be directly connected to the TMS terminals of the target(s).", 51 TMS1 (out) "Test mode select outputs. These parallel outputs transmit TMS signals to the target(s), which direct them through their TAP controller states. TMS1-TMS0 can be directly connected to the TMS terminals of the target(s).", 55 TMS2/EVENT0 (io) "Test mode select outputs or event inputs/outputs. These I/Os can be configured for use as either TMS outputs or event inputs/outputs. As TMS outputs, they function similarly to TMS1-TMS0 above. As event I/Os, they can be (See Datasheet)", 56 TMS3/EVENT1 (io) "Test mode select outputs or event inputs/outputs. These I/Os can be configured for use as either TMS outputs or event inputs/outputs. As TMS outputs, they function similarly to TMS1-TMS0 above. As event I/Os, they can be (See Datasheet)", 58 TMS4/EVENT2 (io) "Test mode select outputs or event inputs/outputs. These I/Os can be configured for use as either TMS outputs or event inputs/outputs. As TMS outputs, they function similarly to TMS1-TMS0 above. As event I/Os, they can be (See Datasheet)", 59 TMS5/EVENT3 (io) "Test mode select outputs or event inputs/outputs. These I/Os can be configured for use as either TMS outputs or event inputs/outputs. As TMS outputs, they function similarly to TMS1-TMS0 above. As event I/Os, they can be (See Datasheet)", 62 ~{TRST} (in) "Test-reset input. T\R\S\T\ is used to initiate hardware and software reset operations of the TBC. Hardware reset begins when T\R\S\T\ is asserted (low). Software reset begins when T\R\S\T\ is released (high) and proceeds (See Datasheet)", 63 ~{WR} (io) "Write input. W\R\ is the strobe for writing data to a TBC data register. Signals present at the data and address buses are captured on the rising edge of W\R\.", 65 ~{RD} (io) "Read strobe. R\D\ is the active low output enable for the data bus. R\D\ is used as the strobe for reading data from the selected TBC register.", 66 ~{RDY} (out) "Ready. R\D\Y\ transmits a status signal to the host. When the TBC is ready to accept a read or write operation from the host, R\D\Y\ is asserted (low). R\D\Y\ is not asserted (high) when the TBC is in recovery from a read, (See Datasheet)", 68 ~{INT} (out) "Interrupt. I\N\T\ transmits an interrupt signal to the host. When the TBC requires service from the host, I\N\T\ is asserted (low). I\N\T\ will remain asserted (low) until the host has completed the required service."
part B pins: 1 GND (power) "Ground", 18 GND (power) "Ground", 19 VCC (power) "Supply voltage", 35 VCC (power) "Supply voltage", 52 GND (power) "Ground", 53 VCC (power) "Supply voltage"
part C pins: 3 NC "No connection", 6 NC "No connection", 9 NC "No connection", 10 NC "No connection", 13 NC "No connection", 16 NC "No connection", 20 NC "No connection", 23 NC "No connection", 26 NC "No connection", 27 NC "No connection", 30 NC "No connection", 33 NC "No connection", 37 NC "No connection", 40 NC "No connection", 43 NC "No connection", 44 NC "No connection", 47 NC "No connection", 50 NC "No connection", 54 NC "No connection", 57 NC "No connection", 60 NC "No connection", 61 NC "No connection", 64 NC "No connection", 67 NC "No connection"